# Altium schematic symbol library LTW-C191TLA.SchLib: 1 symbol
Pins are listed as number, name and electrical type; pins without a type are passive.

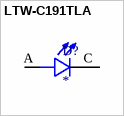
[diagram p0: symbol LTW-C191TLA]

## LTW-C191TLA
designator D?
CHIP LED WHITE 0603 TOP VIEW; MF: {'manufacturer': u'Lite-On'}; MP: LTW-C191TLA; Value: *; Availability: Unavailable; Price: None; Package: None
footprint LEDC1608X65N
pins: A, C